# Altium schematic symbol library 613 0xx 157 21.SchLib: 6 symbols
Pins are listed as number, name and electrical type; pins without a type are passive.

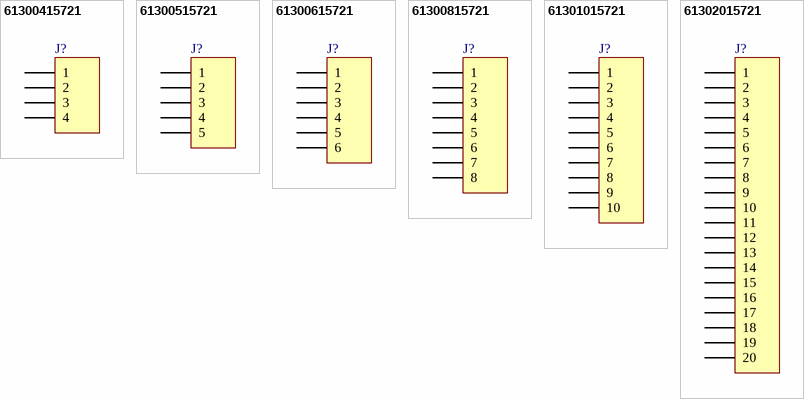
[diagram p0: symbols 61300415721 to 61302015721]

## 61300415721
designator J?, comment 04p  (value not drawn)
WR-PHD 2.54 mm Socket Header Bottom Entry, 04p; PartNumber: 61300415721; PublishedDate: July 2016; Publisher: Wurth Elektronik; ComponentLink1Description: Manufacturer; ComponentLink1URL: http://www.we-online.de; ComponentLink2Description: Datasheet; ComponentLink2URL: http://katalog.we-online.de/em/datasheet/6130xx15721.pdf; PinNumber: 04p
footprint 61300415721
pins: 1, 2, 3, 4

## 61300515721
designator J?, comment 05p  (value not drawn)
WR-PHD 2.54 mm Socket Header Bottom Entry, 05p; PartNumber: 61300515721; PublishedDate: July 2016; Publisher: Wurth Elektronik; ComponentLink1Description: Manufacturer; ComponentLink1URL: http://www.we-online.de; ComponentLink2Description: Datasheet; ComponentLink2URL: http://katalog.we-online.de/em/datasheet/6130xx15721.pdf; PinNumber: 05p
footprint 61300515721
pins: 1, 2, 3, 4, 5

## 61300615721
designator J?, comment 06p  (value not drawn)
WR-PHD 2.54 mm Socket Header Bottom Entry, 06p; PartNumber: 61300615721; PublishedDate: July 2016; Publisher: Wurth Elektronik; ComponentLink1Description: Manufacturer; ComponentLink1URL: http://www.we-online.de; ComponentLink2Description: Datasheet; ComponentLink2URL: http://katalog.we-online.de/em/datasheet/6130xx15721.pdf; PinNumber: 06p
footprint 61300615721
pins: 1, 2, 3, 4, 5, 6

## 61300815721
designator J?, comment 08p  (value not drawn)
WR-PHD 2.54 mm Socket Header Bottom Entry, 08p; PartNumber: 61300815721; PublishedDate: July 2016; Publisher: Wurth Elektronik; ComponentLink1Description: Manufacturer; ComponentLink1URL: http://www.we-online.de; ComponentLink2Description: Datasheet; ComponentLink2URL: http://katalog.we-online.de/em/datasheet/6130xx15721.pdf; PinNumber: 08p
footprint 61300815721
pins: 1, 2, 3, 4, 5, 6, 7, 8

## 61301015721
designator J?, comment 10p  (value not drawn)
WR-PHD 2.54 mm Socket Header Bottom Entry, 10p; PartNumber: 61301015721; PublishedDate: July 2016; Publisher: Wurth Elektronik; ComponentLink1Description: Manufacturer; ComponentLink1URL: http://www.we-online.de; ComponentLink2Description: Datasheet; ComponentLink2URL: http://katalog.we-online.de/em/datasheet/6130xx15721.pdf; PinNumber: 10p
footprint 61301015721
pins: 1, 2, 3, 4, 5, 6, 7, 8, 9, 10

## 61302015721
designator J?, comment 20p  (value not drawn)
WR-PHD 2.54 mm Socket Header Bottom Entry, 20p; PartNumber: 61302015721; PublishedDate: July 2016; Publisher: Wurth Elektronik; ComponentLink1Description: Manufacturer; ComponentLink1URL: http://www.we-online.de; ComponentLink2Description: Datasheet; ComponentLink2URL: http://katalog.we-online.de/em/datasheet/6130xx15721.pdf; PinNumber: 20p
footprint 61302015721
pins: 1, 2, 3, 4, 5, 6, 7, 8, 9, 10, 11, 12, 13, 14, 15, 16, 17, 18, 19, 20